# Altium schematic symbol library MAX3232.SchLib: 1 symbol
Pins are listed as number, name and electrical type; pins without a type are passive.

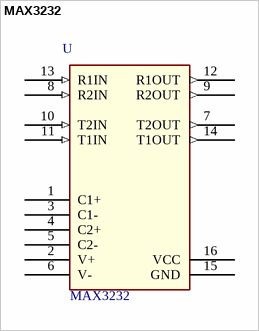
[diagram p0: symbol MAX3232]

## MAX3232
designator U  value MAX3232  (hidden comment: *)
Manufacturer Code: MAX3232ID; Manufacturer: Texas Instruments; Farnell Code: 1652282; Unit Price: 2,32 €
footprint SO16 (Footprint not found)
pins: 1 C1+, 2 V+, 3 C1-, 4 C2+, 5 C2-, 6 V-, 7 T2OUT (out), 8 R2IN (in), 9 R2OUT (out), 10 T2IN (in), 11 T1IN (in), 12 R1OUT (out), 13 R1IN (in), 14 T1OUT (out), 15 GND (power), 16 VCC (power)